# EAGLE library part UCC28710 (library TI)
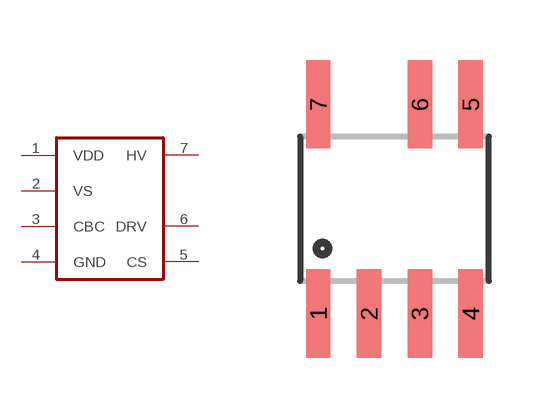
[diagram p11: symbol with the pads of SOIC-7; footprint SOIC-7]

Designator prefix -

## UCC28710  [SOIC-7]
1  VDD
2  VS
3  CBC
4  GND
5  CS
6  DRV
7  HV

## Footprint SOIC-7 (pad centres in mm)
smd 0.61 x 2.21: 1 -1.895,-2.716; 2 -0.625,-2.716; 3 0.645,-2.716; 4 1.915,-2.716; 5 1.915,2.516; 6 0.645,2.516; 7 -1.895,2.516